# Altium footprint library mypcblib1.PcbLib: 2 footprints
Each footprint in its own frame and in the unit in brackets; x right, y up, seen from the top. Pads: shape width x height; smd on the part's side, far side on the other; paste and mask are expansions set on the pad; w line width, h text height; cw(c..) or ccw(c..) is an arc to the next point about the centre after c.
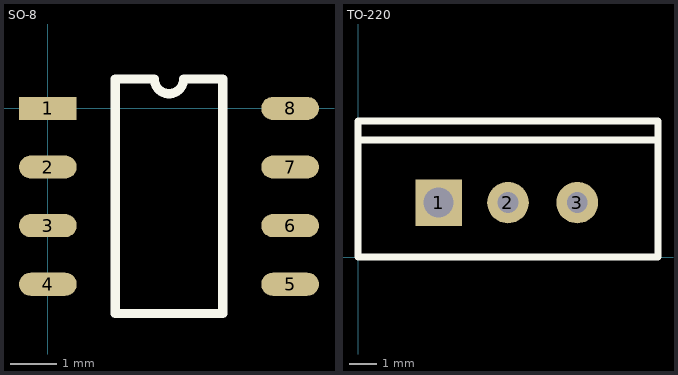
[diagram p0: the footprints below, top view; thin cyan lines are the x and y axes]

## SO-8 [mm]
pads (8):
  rect 1.25x0.5 smd: 1(0,0)
  oval 1.25x0.5 smd: 2(0,-1.27) 3(0,-2.54) 4(0,-3.81) 5(5.25,-3.81) 6(5.25,-2.54) 7(5.25,-1.27) 8(5.25,0)
Top Overlay:
  lines w0.2: 1.46,-4.445 1.46,0.635 2.307,0.635 ccw(c2.625,0.635) 2.942,0.635 3.79,0.635 3.79,-4.445 1.46,-4.445

## TO-220 [mm]
pads (3):
  rect 1.7x1.7 hole 1.1: 1(2.96,2)
  round 1.524 hole 0.762: 2(5.5,2) 3(8.04,2)
Top Overlay:
  lines w0.254: 0,4.3 11,4.3 ; 0,0 11,0 11,5 0,5 0,0